# Altium schematic symbol library CAP EMI.Schlib: 1 symbol
Pins are listed as number, name and electrical type; pins without a type are passive.

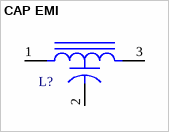
[diagram p0: symbol CAP EMI]

## CAP EMI
designator L?, comment EMI Choke  (value not drawn)
Choke, Common Mode
pins: 1, 2, 3